# Altium schematic symbol library Resistor_0603.SchLib: 235 symbols (part 4 of 4)
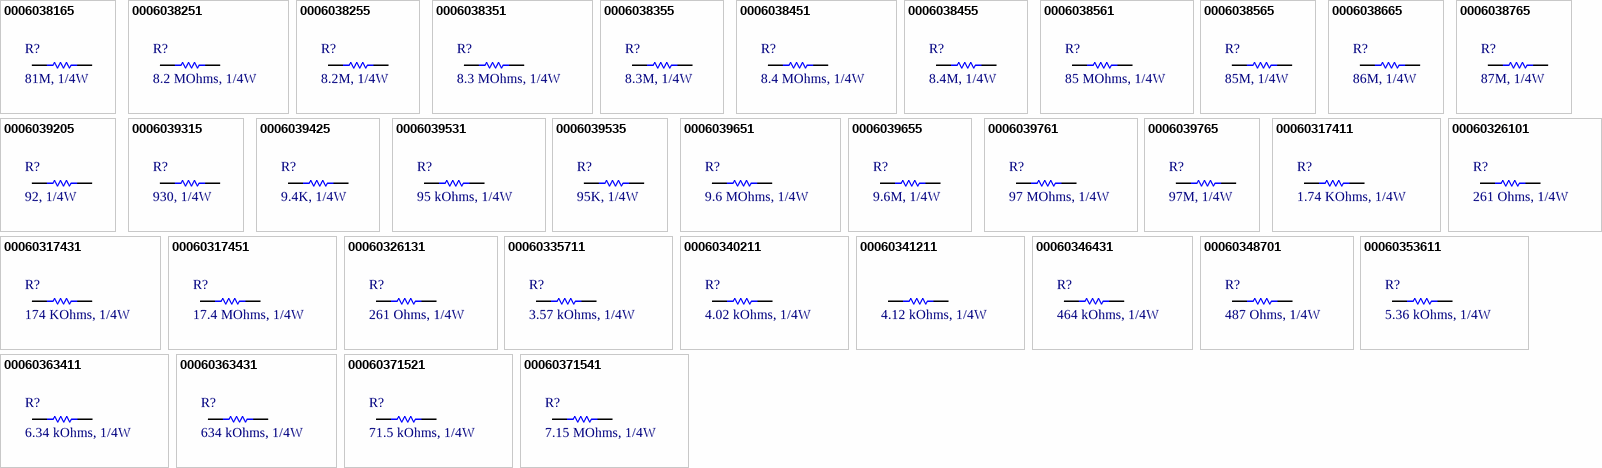
[diagram p8: symbols 0006038165 to 00060371541]

## 00060341211
designator ?, comment 4.12 kOhms, 1/4W
RES, 4.12 kOhms, size 0603, 1%; Manufacture  Name: OEM; Resistance: 4.12 k; Supply 1 Name: Mouser; Supply 1 SN: 71-CRCW0603-4.12K-E3; Supply 2 Name: Digi-Key; Supply 2 SN: 311-4.02KHRTR-ND; Supply 3 Name: Thegioiic; Resistance Tolerant: +/-1%; Size: 0603; Mounting Technology: SMT; Rated Power: 1/4 W; Datasheet: N/A; Supply 1 URL: https://www.mouser.vn/ProductDetail/Vishay-Dale/CRCW06034K12FKEA?qs=7VR27ARAOdnkRSfILZFcCQ%3D%3D; Supply 2 URL: https://www.digikey.com/en/products/detail/yageo/RC0603FR-074K02L/727203; Supply 3 SN: N/A; Supply 3 URL: N/A; Manufacture  SN: OEM
footprint resistor_0603
pins: 1, 2

## 00060346431
designator R?, comment 464 kOhms, 1/4W
RES, 464 kOhms, size 0603, 1%; Manufacture  Name: OEM; Resistance: 464 k; Supply 1 Name: Mouser; Supply 1 SN: 667-ERJ-PA3F4643V; Supply 2 Name: Digi-Key; Supply 2 SN: ERJ-PA3F4643V-ND - Tape & Reel (TR); Supply 3 Name: Thegioiic; Resistance Tolerant: +/-1%; Size: 0603; Mounting Technology: SMT; Rated Power: 1/4 W; Datasheet: https://www.mouser.vn/datasheet/2/315/AOA0000C331-1141874.pdf; Supply 1 URL: https://www.mouser.vn/ProductDetail/Panasonic/ERJ-PA3F4643V?qs=BzJM0faLVqXNplNA4jO3ww%3D%3D; Supply 2 URL: https://www.digikey.com/en/products/detail/panasonic-electronic-components/ERJ-PA3F4643V/5038117?s=N4IgTCBcDaIGxwOwFoCiAlAUsgCgQQGYAxAFjhIIDUQBdAXyA; Supply 3 SN: N/A; Supply 3 URL: N/A; Manufacture  SN: OEM
footprint resistor_0603
pins: 1, 2

## 00060348701
designator R?, comment 487 Ohms, 1/4W
RES, 487 Ohms, size 0603, 1%; Manufacture  Name: OEM; Resistance: 487; Supply 1 Name: Mouser; Supply 1 SN: 667-ERJ-PA3F4870V; Supply 2 Name: Digi-Key; Supply 2 SN: ERJ-PA3F4870V-ND - Tape & Reel (TR); Supply 3 Name: Thegioiic; Resistance Tolerant: +/-1%; Size: 0603; Mounting Technology: SMT; Rated Power: 1/4 W; Datasheet: https://www.mouser.vn/datasheet/2/315/AOA0000C331-1141874.pdf; Supply 1 URL: https://www.mouser.vn/ProductDetail/Panasonic/ERJ-PA3F4870V?qs=BzJM0faLVqXoF%252BFTbHdjOQ%3D%3D; Supply 2 URL: https://www.digikey.com/en/products/detail/panasonic-electronic-components/ERJ-PA3F4870V/5037849?s=N4IgTCBcDaIGxwOwFoCiAlAUsgCgQQGYAxAFgA5EAGANRAF0BfIA; Supply 3 SN: N/A; Supply 3 URL: N/A; Manufacture  SN: OEM
footprint resistor_0603
pins: 1, 2

## 00060353611
designator R?, comment 5.36 kOhms, 1/4W
RES, 5.36 kOhms, size 0603, 1%; Manufacture  Name: OEM; Resistance: 5.36 k; Supply 1 Name: Mouser; Supply 1 SN: 667-ERJ-PA3F5361V; Supply 2 Name: Digi-Key; Supply 2 SN: ERJ-PA3F5361V-ND - Tape & Reel (TR); Supply 3 Name: Thegioiic; Resistance Tolerant: +/-1%; Size: 0603; Mounting Technology: SMT; Rated Power: 1/4 W; Datasheet: https://www.mouser.vn/datasheet/2/315/AOA0000C331-1141874.pdf; Supply 1 URL: https://www.mouser.vn/ProductDetail/Panasonic/ERJ-PA3F5361V?qs=BzJM0faLVqV9HycZG6PMVQ%3D%3D; Supply 2 URL: https://www.digikey.com/en/products/detail/panasonic-electronic-components/ERJ-PA3F5361V/5037943?s=N4IgTCBcDaIGxwOwFoCiAlAUsgCgQQGYAxAVgLgEYA1EAXQF8g; Supply 3 SN: N/A; Supply 3 URL: N/A; Manufacture  SN: OEM
footprint resistor_0603
pins: 1, 2

## 00060363411
designator R?, comment 6.34 kOhms, 1/4W
RES, 6.34 kOhms, size 0603, 1%; Manufacture  Name: OEM; Resistance: 6.34 k; Supply 1 Name: Mouser; Supply 1 SN: 652-CR0805FX-6341ELF; Supply 2 Name: Digi-Key; Supply 2 SN: 311-6.34KHRTR-ND; Supply 3 Name: Thegioiic; Resistance Tolerant: +/-1%; Size: 0603; Mounting Technology: SMT; Rated Power: 1/4 W; Datasheet: N/A; Supply 1 URL: https://www.mouser.vn/ProductDetail/Bourns/CR0805-FX-6341ELF?qs=LA9FZBosJlAK7SMOW8nAHg%3D%3D; Supply 2 URL: https://www.digikey.com/en/products/detail/yageo/RC0603FR-076K34L/727320; Supply 3 SN: N/A; Supply 3 URL: N/A; Manufacture  SN: OEM
footprint resistor_0603
pins: 1, 2

## 00060363431
designator R?, comment 634 kOhms, 1/4W
RES, 634 kOhms, size 0603, 1%; Manufacture  Name: OEM; Resistance: 634 k; Supply 1 Name: Mouser; Supply 1 SN: 652-CR0805FX-6343ELF; Supply 2 Name: Digi-Key; Supply 2 SN: 311-634KHRTR-ND; Supply 3 Name: Thegioiic; Resistance Tolerant: +/-1%; Size: 0603; Mounting Technology: SMT; Rated Power: 1/4 W; Datasheet: N/A; Supply 1 URL: https://www.mouser.vn/ProductDetail/Bourns/CR0805-FX-6343ELF?qs=LA9FZBosJlBAKVRC2OUkqw%3D%3D; Supply 2 URL: https://www.digikey.com/en/products/detail/yageo/RC0603FR-07634KL/727342; Supply 3 SN: N/A; Supply 3 URL: N/A; Manufacture  SN: OEM
footprint resistor_0603
pins: 1, 2

## 00060371521
designator R?, comment 71.5 kOhms, 1/4W
RES, 71.5 kOhms, size 0603, 1%; Manufacture  Name: OEM; Resistance: 71.5 k; Supply 1 Name: Mouser; Supply 2 Name: Digi-Key; Supply 2 SN: 311-71.5KHRTR-ND; Supply 3 Name: Thegioiic; Resistance Tolerant: +/-1%; Size: 0603; Mounting Technology: SMT; Rated Power: 1/4 W; Datasheet: N/A; Supply 1 SN: N/A; Supply 1 URL: N/A; Supply 2 URL: https://www.digikey.com/en/products/detail/yageo/RC0603FR-0771K5L/727370; Supply 3 SN: N/A; Supply 3 URL: N/A; Manufacture  SN: OEM
footprint resistor_0603
pins: 1, 2

## 00060371541
designator R?, comment 7.15 MOhms, 1/4W
RES, 7.15 MOhms, size 0603, 1%; Manufacture  Name: OEM; Resistance: 7.15 M; Supply 1 Name: Mouser; Supply 1 SN: 603-RC0201FR-077M15L; Supply 2 Name: Digi-Key; Supply 2 SN: 541-7.15MHTR-ND; Supply 3 Name: Thegioiic; Resistance Tolerant: +/-1%; Size: 0603; Mounting Technology: SMT; Rated Power: 1/4 W; Datasheet: N/A; Supply 1 URL: https://www.mouser.vn/ProductDetail/YAGEO/RC0201FR-077M15L?qs=lc2O%252BfHJPVagYgggyyCiyg%3D%3D; Supply 2 URL: https://www.digikey.com/en/products/detail/vishay-dale/CRCW06037M15FKEA/1175108; Supply 3 SN: N/A; Supply 3 URL: N/A; Manufacture  SN: OEM
footprint resistor_0603
pins: 1, 2